# Altium footprint library 2512.PcbLib: 3 footprints
Each footprint in its own frame and in the unit in brackets; x right, y up, seen from the top. Pads: shape width x height; smd on the part's side, far side on the other; paste and mask are expansions set on the pad; w line width, h text height; cw(c..) or ccw(c..) is an arc to the next point about the centre after c.
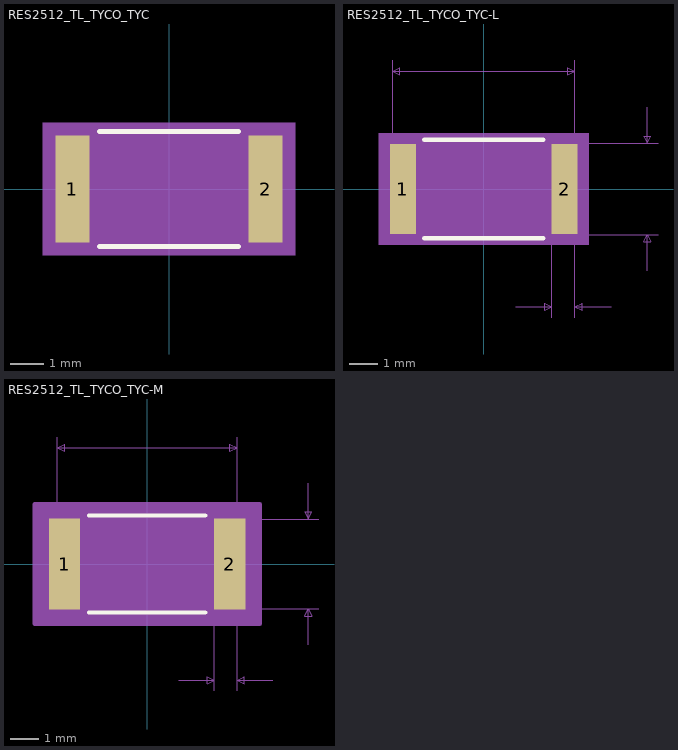
[diagram p0: the footprints below, top view; thin cyan lines are the x and y axes]

## RES2512_TL_TYCO_TYC [mil]
pads (2):
  rect 39.87x126 smd paste+0 mask+0: 1(-113.94,0) 2(113.94,0)
Top Overlay:
  lines w6: -81.89,-68 81.89,-68 ; -81.89,68 81.89,68
Mechanical 5:
  region: 148.87,-78 -148.87,-78 -148.87,78 148.87,78
Mechanical 13:
  lines w1: -126,-63 -126,63 ; -126,-63 126,-63 ; -126,-63 -94,-63 -94,63 -126,63 ; -126,-63 -126,63 ; -126,63 126,63 ; 126,-63 126,63 ; 126,-63 126,63 ; 126,-63 94,-63 94,63 126,63
Mechanical 15:
  region: 143.87,-73 -143.87,-73 -143.87,73 143.87,73
  lines w6: -143.87,-73 143.87,-73 143.87,73 -143.87,73 -143.87,-73
3D body "RES2512_TL_TYCO_TYC.step": height 24.02, standoff 0, extent -125.98,-62.99 125.99,63
3D body: height 10, standoff 0, extent 0,0 10,10

## RES2512_TL_TYCO_TYC-L [mil]
pads (2):
  rect 35.94x124.03 smd paste+0 mask+0: 1(-111.97,0) 2(111.97,0)
Top Overlay:
  lines w6: -82.35,-68 82.35,-68 ; -82.35,68 82.35,68
Mechanical 5:
  region: 144.94,-77.02 -144.94,-77.02 -144.94,77.02 144.94,77.02
Mechanical 7:
  lines w1: -126,0 -126,178 ; 0,-63 241,-63 ; 0,63 241,63 ; 44,-163 94,-163 ; 94,-178 94,0 ; 126,-178 126,0 126,178 ; 176,-163 126,-163 ; 226,-113 226,-63 ; 226,113 226,63 ; -126,163 -116,158 -116,168 -126,163 ; -126,163 126,163 ; 94,-163 84,-168 84,-158 94,-163 ; 126,-163 136,-168 136,-158 126,-163 ; 126,163 116,158 116,168 126,163 ; 226,-63 231,-73 221,-73 226,-63 ; 226,63 231,73 221,73 226,63
  text "0.032in/0.813mm" at 16.25,-208 h25
  text "0.252in/6.401mm" at -93.75,183 h25
  text "0.126in/3.2mm" at 246,-12.5 h25
  text "Alt 2 Padstyle: b229_152h76" at -337.5,-452.02 h50
  text "Alt 1 Padstyle: b152_229h76" at -337.5,-392.02 h50
  text "Default Padstyle: r91_315" at -312.5,-332.02 h50
Mechanical 13:
  lines w1: -126,-63 -126,63 ; -126,-63 126,-63 ; -126,-63 -94,-63 -94,63 -126,63 ; -126,-63 -126,63 ; -126,63 126,63 ; 126,-63 126,63 ; 126,-63 126,63 ; 126,-63 94,-63 94,63 126,63
Mechanical 15:
  region: 133.94,-66.02 -133.94,-66.02 -133.94,66.02 133.94,66.02
  lines w6: -133.94,-66.02 133.94,-66.02 133.94,66.02 -133.94,66.02 -133.94,-66.02
3D body "RES2512_TL_TYCO_TYC-L.step": height 24.02, standoff 0, extent -125.98,-62.99 125.99,63
3D body: height 10, standoff 0, extent 0,0 10,10

## RES2512_TL_TYCO_TYC-M [mil]
pads (2):
  rect 43.81x127.97 smd paste+0 mask+0: 1(-115.91,0) 2(115.91,0)
Top Overlay:
  lines w6: -81.53,-68 81.53,-68 ; -81.53,68 81.53,68
Mechanical 5:
  region: 152.81,-78.98 -152.81,-78.98 -152.81,78.98 152.81,78.98
Mechanical 7:
  lines w1: -126,0 -126,178 ; 0,-63 241,-63 ; 0,63 241,63 ; 44,-163 94,-163 ; 94,-178 94,0 ; 126,-178 126,0 126,178 ; 176,-163 126,-163 ; 226,-113 226,-63 ; 226,113 226,63 ; -126,163 126,163 ; -126,163 -116,168 -116,158 -126,163 ; 94,-163 84,-158 84,-168 94,-163 ; 126,-163 136,-158 136,-168 126,-163 ; 126,163 116,168 116,158 126,163 ; 226,-63 221,-73 231,-73 226,-63 ; 226,63 221,73 231,73 226,63
  text "Default Padstyle: r111_325" at -325,-333.98 h50
  text "Alt 1 Padstyle: b152_229h76" at -337.5,-393.98 h50
  text "Alt 2 Padstyle: b229_152h76" at -337.5,-453.98 h50
  text "0.126in/3.2mm" at 246,-12.5 h25
  text "0.252in/6.401mm" at -93.75,183 h25
  text "0.032in/0.813mm" at 16.25,-208 h25
Mechanical 13:
  lines w1: -126,-63 -126,63 ; -126,-63 -94,-63 -94,63 -126,63 ; -126,-63 126,-63 ; -126,-63 -126,63 ; -126,63 126,63 ; 126,-63 94,-63 94,63 126,63 ; 126,-63 126,63 ; 126,-63 126,63
Mechanical 15:
  region: 157.81,-83.98 -157.81,-83.98 -157.81,83.98 157.81,83.98
  lines w6: -157.81,-83.98 -157.81,83.98 157.81,83.98 157.81,-83.98 -157.81,-83.98
3D body "RES2512_TL_TYCO_TYC-M.step": height 24.02, standoff 0, extent -125.98,-62.99 125.99,63
3D body: height 10, standoff 0, extent 0,0 10,10